# Altium schematic symbol library B12B-XH-A_LF__SN_.SchLib: 1 symbol
Pins are listed as number, name and electrical type; pins without a type are passive.

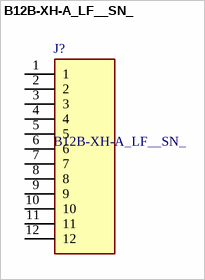
[diagram p0: symbol B12B-XH-A_LF__SN_]

## B12B-XH-A_LF__SN_
designator J?
CONN HEADER XH TOP 12POS 2.5MM; Manufacturer_Name: JST (JAPAN SOLDERLESS TERMINALS); Manufacturer_Part_Number: B12B-XH-A(LF)(SN); Geometry.Height: 7mm; Mouser Part Number: 306-B12BXHALFSN; Mouser Price/Stock: https://www.mouser.co.uk/ProductDetail/JST-Commercial/B12B-XH-ALFSN?qs=cdbOS8ANM9DlDe0nA7fEWA%3D%3D; Datasheet Link: http://www.jst-mfg.com/product/pdf/eng/eXH.pdf
footprint SHDR12W64P0X250_1X12_3240X575X700P
pins: 1, 2, 3, 4, 5, 6, 7, 8, 9, 10, 11, 12